# EAGLE library part PINHD-1X8-ROUND (library Pinhead1x8round)
PIN HEADER
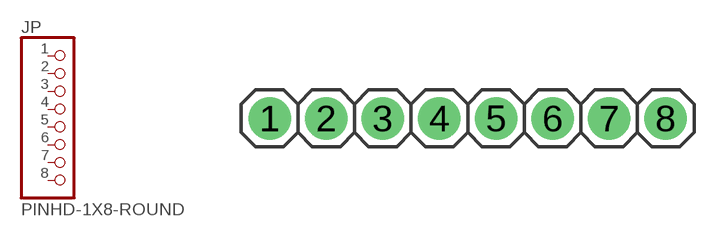
[diagram p0: symbol with the pads of 1X08-ROUND; footprint 1X08-ROUND]

Designator prefix JP

## PINHD-1X8-ROUND  [1X08-ROUND]
1  1  pas
2  2  pas
3  3  pas
4  4  pas
5  5  pas
6  6  pas
7  7  pas
8  8  pas

## Footprint 1X08-ROUND (pad centres in mm)
PIN HEADER
drill 1 pad 1.905: 1 -8.89,0; 2 -6.35,0; 3 -3.81,0; 4 -1.27,0; 5 1.27,0; 6 3.81,0; 7 6.35,0; 8 8.89,0